# Altium footprint library PCB15.PcbLib: 21 footprints (part 1 of 2)
Each footprint in its own frame and in the unit in brackets; x right, y up, seen from the top. Pads: shape width x height; smd on the part's side, far side on the other; paste and mask are expansions set on the pad; w line width, h text height; cw(c..) or ccw(c..) is an arc to the next point about the centre after c.
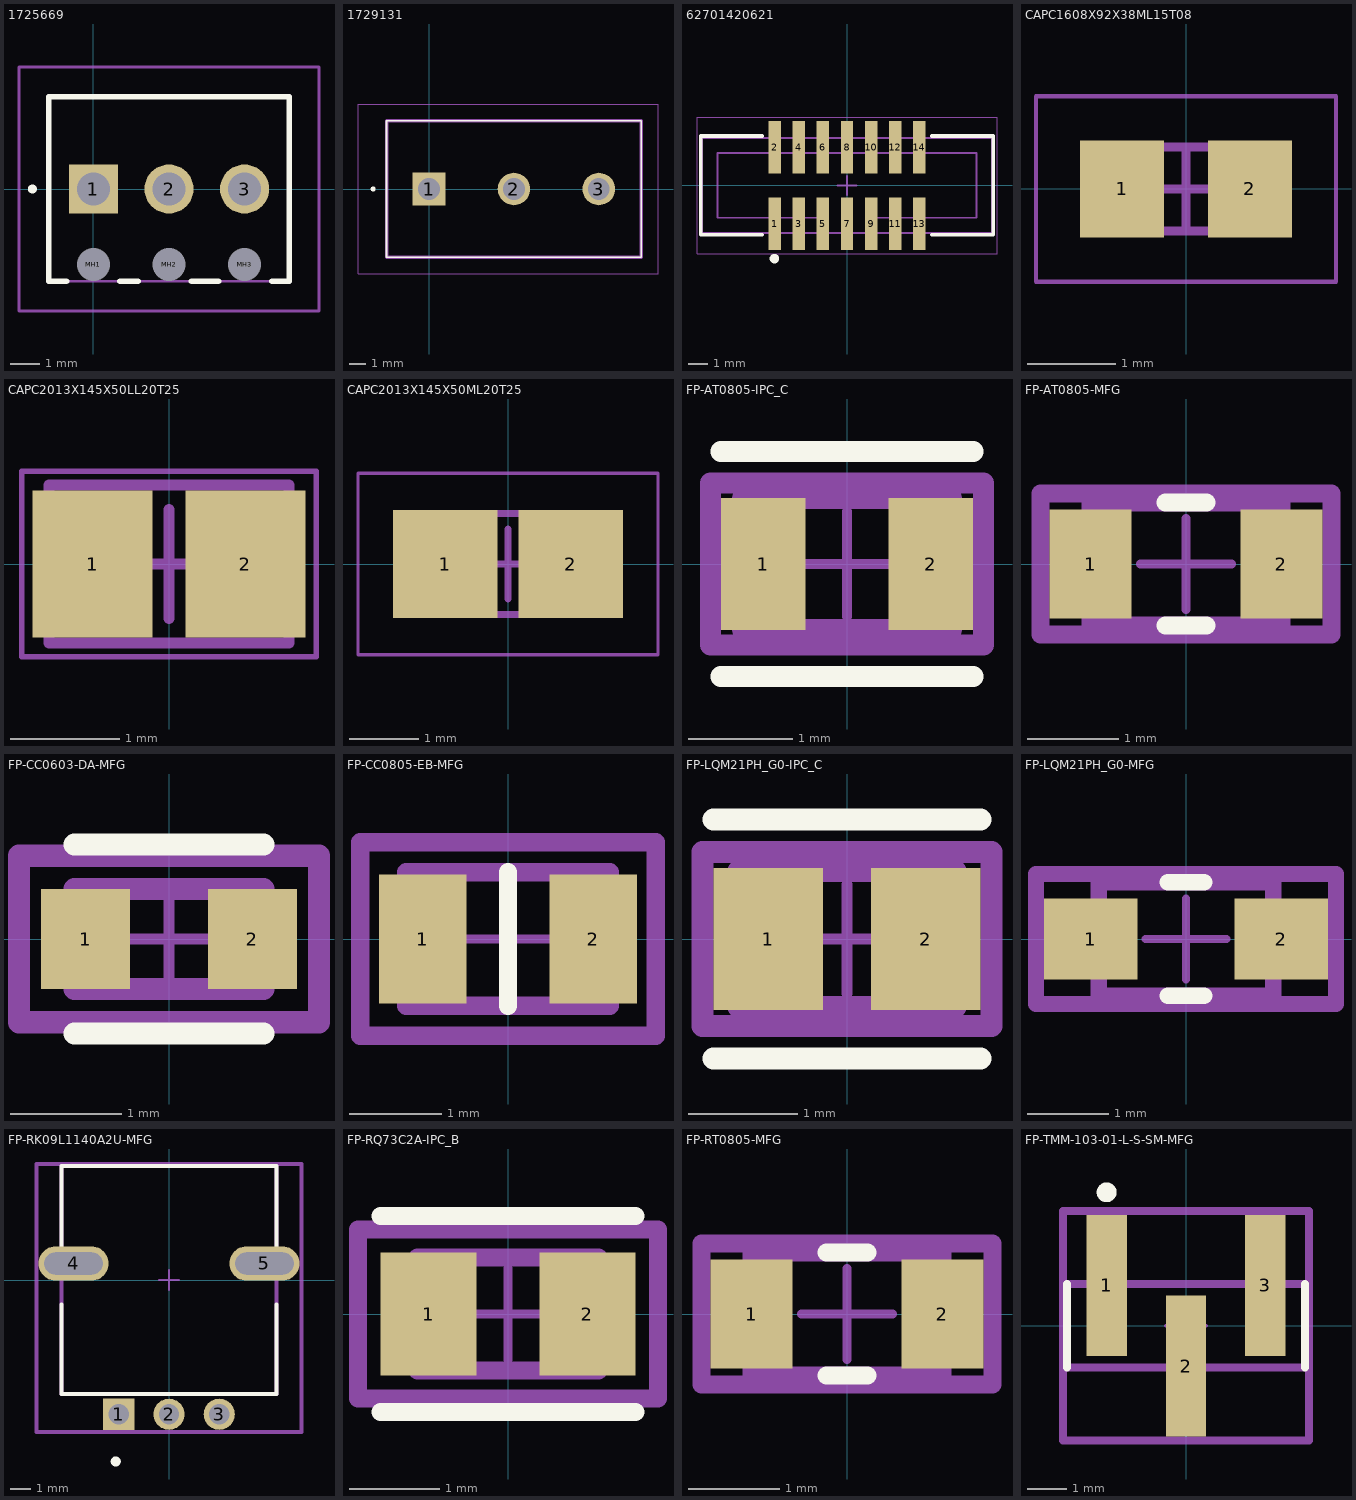
[diagram p0: the footprints below, top view; thin cyan lines are the x and y axes]

## 1725669 [mm]
pads (6):
  rect 1.65x1.65 hole 1.1: 1(0,0)
  round 1.65 hole 1.1: 2(2.54,0) 3(5.08,0)
  round 0.55 hole 1.1 unplated: MH1(0,-2.54) MH2(2.54,-2.54) MH3(5.08,-2.54)
Top Overlay:
  lines w0.2: -0.9,-3.1 -1.5,-3.1 -1.5,3.1 6.58,3.1 6.58,-3.1 6,-3.1 ; 0.9,-3.1 1.5,-3.1 ; 3.3,-3.1 4.2,-3.1 ; -2.1,0 ccw(c-2.05,0) -2,0 ; -2.1,0 cw(c-2.05,0) -2,0 ; -2.1,0 ccw(c-2.05,0) -2,0
Mechanical 13:
  lines w0.1: -1.5,-3.1 6.58,-3.1 6.58,3.1 -1.5,3.1 -1.5,-3.1
Mechanical 15:
  lines w0.1: -2.5,-4.1 7.58,-4.1 7.58,4.1 -2.5,4.1 -2.5,-4.1
3D body "1725669.stp": height 8.5, standoff -3.5, extent -1.403,-3.152 6.737,3.048

## 1729131 [mm]
pads (3):
  rect 1.95x1.95 hole 1.3: 1(0,0)
  round 1.95 hole 1.3: 2(5.08,0) 3(10.16,0)
Top Overlay:
  circle w0.2: c-3.35,0 r0.05
  lines w0.1: -2.54,-4.075 12.7,-4.075 12.7,4.075 -2.54,4.075 -2.54,-4.075
Mechanical 13:
  lines w0.2: -2.54,-4.075 12.7,-4.075 12.7,4.075 -2.54,4.075 -2.54,-4.075
Mechanical 15:
  lines w0.05: -4.25,-5.075 13.7,-5.075 13.7,5.075 -4.25,5.075 -4.25,-5.075
3D body "1729131.stp": height 9.97, standoff -3.5, extent -0.57,0 15.235,8.15

## 62701420621 [mm]
pads (14):
  rect 0.65x2.76 smd: 1(-3.81,-2.02) 2(-3.81,2.02) 3(-2.54,-2.02) 4(-2.54,2.02) 5(-1.27,-2.02) 6(-1.27,2.02) 7(0,-2.02) 8(0,2.02) 9(1.27,-2.02) 10(1.27,2.02) 11(2.54,-2.02) 12(2.54,2.02) 13(3.81,-2.02) 14(3.81,2.02)
Top Overlay:
  circle w0.25: c-3.82,-3.85 r0.125
  lines w0.2: -4.47,-2.6 -7.695,-2.6 -7.695,2.6 -4.47,2.6 ; 4.47,-2.6 7.695,-2.6 7.695,2.6 4.47,2.6
Top 3D Body:
  lines w0.1: -1.2,-2.5 -1.2,-1.7 -6.82,-1.7 -6.82,1.7 6.82,1.7 6.82,-1.7 1.2,-1.7 1.2,-2.5 ; -7.62,-2.5 -7.62,2.5 7.62,2.5 7.62,-2.5 -7.62,-2.5
Top Courtyard:
  lines w0.05: -7.895,-3.6 7.895,-3.6 7.895,3.6 -7.895,3.6 -7.895,-3.6
Top Assembly:
  lines w0.1: -1.2,-2.5 -1.2,-1.7 -6.82,-1.7 -6.82,1.7 6.82,1.7 6.82,-1.7 1.2,-1.7 1.2,-2.5 ; -7.62,-2.5 7.62,-2.5 7.62,2.5 -7.62,2.5 -7.62,-2.5
Top Designator:
  text ".Designator" at -3.647,-0.357 h1
Top Component Center:
  lines w0.1: -0.5,0 0.5,0 ; 0,-0.5 0,0.5
3D body "62701420621.stp": height 5.2, standoff -0.04, extent -7.62,-2.8 7.62,2.8

## CAPC1608X92X38ML15T08 [mm]
pads (2):
  rect 0.95x1.1 smd: 1(-0.725,0) 2(0.725,0)
Mechanical 13:
  lines w0.1: -0.875,-0.475 0.875,-0.475 0.875,0.475 -0.875,0.475 -0.875,-0.475
Mechanical 15:
  lines w0.05: -1.7,-1.05 1.7,-1.05 1.7,1.05 -1.7,1.05 -1.7,-1.05
  lines w0.1: -0.475,0 0.475,0 ; 0,-0.475 0,0.475
3D body: height 0.92, standoff 0, extent 0.495,-0.475 0.875,0.475
3D body: height 0.92, standoff 0, extent -0.875,-0.475 -0.495,0.475
3D body: height 0.92, standoff 0, extent -0.495,-0.475 0.495,0.475

## CAPC2013X145X50LL20T25 [mm]
pads (2):
  rect 1.1x1.35 smd: 1(-0.7,0) 2(0.7,0)
Mechanical 13:
  lines w0.1: -1.1,-0.725 1.1,-0.725 1.1,0.725 -1.1,0.725 -1.1,-0.725
Mechanical 15:
  lines w0.05: -1.35,-0.85 1.35,-0.85 1.35,0.85 -1.35,0.85 -1.35,-0.85
  lines w0.1: -0.5,0 0.5,0 ; 0,-0.5 0,0.5
3D body: height 1.45, standoff 0, extent 0.6,-0.725 1.1,0.725
3D body: height 1.45, standoff 0, extent -1.1,-0.725 -0.6,0.725
3D body: height 1.45, standoff 0, extent -0.6,-0.725 0.6,0.725

## CAPC2013X145X50ML20T25 [mm]
pads (2):
  rect 1.5x1.55 smd: 1(-0.9,0) 2(0.9,0)
Mechanical 13:
  lines w0.1: -1.1,-0.725 1.1,-0.725 1.1,0.725 -1.1,0.725 -1.1,-0.725
Mechanical 15:
  lines w0.05: -2.15,-1.3 2.15,-1.3 2.15,1.3 -2.15,1.3 -2.15,-1.3
  lines w0.1: -0.5,0 0.5,0 ; 0,-0.5 0,0.5
3D body: height 1.45, standoff 0, extent 0.6,-0.725 1.1,0.725
3D body: height 1.45, standoff 0, extent -1.1,-0.725 -0.6,0.725
3D body: height 1.45, standoff 0, extent -0.6,-0.725 0.6,0.725

## FP-AT0805-IPC_C [mm]
pads (2):
  rect 0.808x1.262 smd paste+0 mask+0: 1(-0.802,0) 2(0.802,0)
Top Overlay:
  lines w0.2: -1.206,-1.075 1.206,-1.075 ; -1.206,1.075 1.206,1.075
Top 3D Body:
  lines w0.2: -1,-0.625 -1,0.625 1,0.625 1,-0.625 -1,-0.625
Top Courtyard:
  lines w0.2: -1.306,-0.775 -1.306,0.775 1.306,0.775 1.306,-0.775 -1.306,-0.775
Top Assembly:
  lines w0.2: -1.306,-0.775 -1.306,0.775 1.306,0.775 1.306,-0.775 -1.306,-0.775
  text ".Designator" at 0,0.188 h1
Top Component Center:
  lines w0.1: -0.5,0 0.5,0 ; 0,-0.5 0,0.5
3D body "Res_Yageo_AT0805BRA0710KL_eec.STEP": height 0.25, standoff 0, extent -1.306,-0.775 1.306,0.775

## FP-AT0805-MFG [mm]
pads (2):
  rect 0.9x1.2 smd paste+0 mask+0: 1(-1.05,0) 2(1.05,0)
Top Overlay:
  lines w0.2: -0.225,-0.675 0.225,-0.675 ; -0.225,0.675 0.225,0.675
Top 3D Body:
  lines w0.2: -1.05,-0.675 -1.05,0.675 1.05,0.675 1.05,-0.675 -1.05,-0.675
Top Courtyard:
  lines w0.2: -1.6,-0.775 -1.6,0.775 1.6,0.775 1.6,-0.775 -1.6,-0.775
Top Assembly:
  lines w0.2: -1.6,-0.775 -1.6,0.775 1.6,0.775 1.6,-0.775 -1.6,-0.775
  text ".Designator" at 0,0.188 h1
Top Component Center:
  lines w0.1: -0.5,0 0.5,0 ; 0,-0.5 0,0.5
3D body "Res_Yageo_AT0805BRA0710KL_eec.STEP": height 0.25, standoff 0, extent -1.6,-0.775 1.6,0.775

## FP-CC0603-DA-MFG [mm]
pads (2):
  rect 0.8x0.9 smd paste+0 mask+0: 1(-0.75,0) 2(0.75,0)
Top Overlay:
  lines w0.2: -0.85,-0.85 0.85,-0.85 ; -0.85,0.85 0.85,0.85
Top 3D Body:
  lines w0.2: -0.85,-0.45 -0.85,0.45 0.85,0.45 0.85,-0.45 -0.85,-0.45
Top Courtyard:
  lines w0.2: -1.35,-0.75 -1.35,0.75 1.35,0.75 1.35,-0.75 -1.35,-0.75
Top Assembly:
  lines w0.2: -1.35,-0.75 -1.35,0.75 1.35,0.75 1.35,-0.75 -1.35,-0.75
  text ".Designator" at 0,0.188 h1
Top Component Center:
  lines w0.1: -0.5,0 0.5,0 ; 0,-0.5 0,0.5
3D body "Cap_YAGEO_CC0603KRX7R9BB271_eec.STEP": height 0.25, standoff 0, extent -1.35,-0.75 1.35,0.75

## FP-CC0805-EB-MFG [mm]
pads (2):
  rect 0.95x1.4 smd paste+0 mask+0: 1(-0.925,0) 2(0.925,0)
Top Overlay:
  lines w0.2: 0,-0.725 0,0.725
Top 3D Body:
  lines w0.2: -1.1,-0.725 -1.1,0.725 1.1,0.725 1.1,-0.725 -1.1,-0.725
Top Courtyard:
  lines w0.2: -1.6,-1.05 -1.6,1.05 1.6,1.05 1.6,-1.05 -1.6,-1.05
Top Assembly:
  lines w0.2: -1.6,-1.05 -1.6,1.05 1.6,1.05 1.6,-1.05 -1.6,-1.05
  text ".Designator" at 0,-0.001 h1
Top Component Center:
  lines w0.1: -0.5,0 0.5,0 ; 0,-0.5 0,0.5
3D body "Cap_Yageo_CC0805KKX7RYBB104_eec.STEP": height 0.25, standoff 0, extent -1.6,-1.05 1.6,1.05

## FP-LQM21PH_G0-IPC_C [mm]
pads (2):
  rect 1.006x1.308 smd paste+0 mask+0: 1(-0.726,0) 2(0.726,0)
Top Overlay:
  lines w0.2: -1.229,-1.1 1.229,-1.1 ; -1.229,1.1 1.229,1.1
Top 3D Body:
  lines w0.2: -1,-0.625 -1,0.625 1,0.625 1,-0.625 -1,-0.625
Top Courtyard:
  lines w0.2: -1.329,-0.8 -1.329,0.8 1.329,0.8 1.329,-0.8 -1.329,-0.8
Top Assembly:
  lines w0.2: -1.329,-0.8 -1.329,0.8 1.329,0.8 1.329,-0.8 -1.329,-0.8
  text ".Designator" at 0,0.188 h1
Top Component Center:
  lines w0.1: -0.5,0 0.5,0 ; 0,-0.5 0,0.5
3D body "Ind_Murata_LQM21PZ2R2NGCB_eec.STEP": height 0.25, standoff 0, extent -1.329,-0.8 1.329,0.8

## FP-LQM21PH_G0-MFG [mm]
pads (2):
  rect 1.15x1 smd paste+0 mask+0: 1(-1.175,0) 2(1.175,0)
Top Overlay:
  lines w0.2: -0.225,-0.7 0.225,-0.7 ; -0.225,0.7 0.225,0.7
Top 3D Body:
  lines w0.2: -1.075,-0.7 -1.075,0.7 1.075,0.7 1.075,-0.7 -1.075,-0.7
Top Courtyard:
  lines w0.2: -1.85,-0.8 -1.85,0.8 1.85,0.8 1.85,-0.8 -1.85,-0.8
Top Assembly:
  lines w0.2: -1.85,-0.8 -1.85,0.8 1.85,0.8 1.85,-0.8 -1.85,-0.8
  text ".Designator" at 0,0.188 h1
Top Component Center:
  lines w0.1: -0.5,0 0.5,0 ; 0,-0.5 0,0.5
3D body "Ind_Murata_LQM21PZ2R2NGCB_eec.STEP": height 0.25, standoff 0, extent -1.85,-0.8 1.85,0.8

## FP-RK09L1140A2U-MFG [mm]
pads (5):
  rect 1.55x1.55 hole 1 paste-2539.97 mask+0: 1(-2.5,-6.675)
  round 1.55 hole 1 paste-2539.97 mask+0: 2(0,-6.675) 3(2.5,-6.675)
  rrect100% 3.5x1.7 hole 1.1 slot 2.9 at 0 deg paste-2539.97 mask+0: 4(-4.75,0.825) 5(4.75,0.825)
Top Overlay:
  circle w0.25: c-2.65,-9.025 r0.125
  lines w0.2: -5.35,-1.225 -5.35,-5.675 5.35,-5.675 5.35,-1.225 ; -5.35,1.225 -5.35,5.675 5.35,5.675 5.35,1.225
Top 3D Body:
  lines w0.2: -5.35,-5.675 -5.35,5.675 5.35,5.675 5.35,-5.675 -5.35,-5.675
Top Courtyard:
  lines w0.2: -6.6,-7.55 -6.6,5.775 6.6,5.775 6.6,-7.55 -6.6,-7.55
Top Assembly:
  lines w0.2: -6.6,-7.55 -6.6,5.775 6.6,5.775 6.6,-7.55 -6.6,-7.55
  text ".Designator" at 0,-0.888 h1
Top Component Center:
  lines w0.1: -0.5,0 0.5,0 ; 0,-0.5 0,0.5
3D body "Res_ALPS_RK09L1140A2U_eec.STEP": height 0.25, standoff 0, extent -6.6,-7.55 6.6,5.775

## FP-RQ73C2A-IPC_B [mm]
pads (2):
  rect 1.058x1.362 smd paste+0 mask+0: 1(-0.877,0) 2(0.877,0)
Top Overlay:
  lines w0.2: -1.406,-1.081 1.406,-1.081 ; -1.406,1.081 1.406,1.081
Top 3D Body:
  lines w0.2: -1,-0.625 -1,0.625 1,0.625 1,-0.625 -1,-0.625
Top Courtyard:
  lines w0.2: -1.656,-0.931 -1.656,0.931 1.656,0.931 1.656,-0.931 -1.656,-0.931
Top Assembly:
  lines w0.2: -1.656,-0.931 -1.656,0.931 1.656,0.931 1.656,-0.931 -1.656,-0.931
  text ".Designator" at 0,0.188 h1
Top Component Center:
  lines w0.1: -0.5,0 0.5,0 ; 0,-0.5 0,0.5
3D body "Res_TE_Connectivity_RQ73C2A10R7BTD_eec.STEP": height 0.25, standoff 0, extent -1.656,-0.931 1.656,0.931

## FP-RT0805-MFG [mm]
pads (2):
  rect 0.9x1.2 smd paste+0 mask+0: 1(-1.05,0) 2(1.05,0)
Top Overlay:
  lines w0.2: -0.225,-0.675 0.225,-0.675 ; -0.225,0.675 0.225,0.675
Top 3D Body:
  lines w0.2: -1.05,-0.675 -1.05,0.675 1.05,0.675 1.05,-0.675 -1.05,-0.675
Top Courtyard:
  lines w0.2: -1.6,-0.775 -1.6,0.775 1.6,0.775 1.6,-0.775 -1.6,-0.775
Top Assembly:
  lines w0.2: -1.6,-0.775 -1.6,0.775 1.6,0.775 1.6,-0.775 -1.6,-0.775
  text ".Designator" at 0,0.188 h1
Top Component Center:
  lines w0.1: -0.5,0 0.5,0 ; 0,-0.5 0,0.5
3D body "Res_Yageo_RT0805WRB07165RL_eec.STEP": height 0.25, standoff 0, extent -1.6,-0.775 1.6,0.775

## FP-TMM-103-01-L-S-SM-MFG [mm]
pads (3):
  rect 1.02x3.56 smd paste+0 mask+0: 1(-2,1.015) 2(0,-1.015) 3(2,1.015)
Top Overlay:
  circle w0.25: c-2,3.363 r0.125
  lines w0.2: -3,-1.054 -3,1.054 ; 3,-1.054 3,1.054
Top 3D Body:
  lines w0.2: -3,-1.054 -3,1.054 3,1.054 3,-1.054 -3,-1.054
Top Courtyard:
  lines w0.2: -3.1,-2.895 -3.1,2.895 3.1,2.895 3.1,-2.895 -3.1,-2.895
Top Assembly:
  lines w0.2: -3.1,-2.895 -3.1,2.895 3.1,2.895 3.1,-2.895 -3.1,-2.895
  text ".Designator" at 0,-0.001 h1
Top Component Center:
  lines w0.1: -0.5,0 0.5,0 ; 0,-0.5 0,0.5
3D body "Conn_Samtec_TMM-103-01-L-S-SM_eec.STEP": height 0.25, standoff 0, extent -3.1,-2.895 3.1,2.895